# EAGLE library part ESP-12-E (library IC-ESP)
ESP8266 Wifi Module ESP-12-E
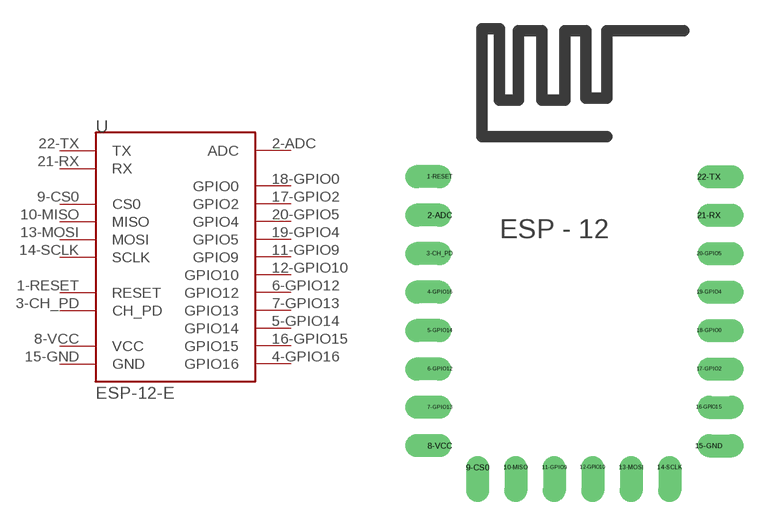
[diagram p13: symbol with the pads of ESP-12-E; footprint ESP-12-E]

Designator prefix -

## ESP-12-E (DIMENSIONS: 24.0 x 16.0 mm; PINS: 22; PITCH: 0.078" / 2 mm)  [ESP-12-E]
1-RESET  RESET
2-ADC  ADC
3-CH_PD  CH_PD
4-GPIO16  GPIO16
5-GPIO14  GPIO14
6-GPIO12  GPIO12
7-GPIO13  GPIO13
8-VCC  VCC
9-CS0  CS0
10-MISO  MISO
11-GPIO9  GPIO9
12-GPIO10  GPIO10
13-MOSI  MOSI
14-SCLK  SCLK
15-GND  GND
16-GPIO15  GPIO15
17-GPIO2  GPIO2
18-GPIO0  GPIO0
19-GPIO4  GPIO5
20-GPIO5  GPIO4
21-RX  RX
22-TX  TX

## Footprint ESP-12-E (pad centres in mm)
ESP8266 Module ESP-12-E
drill 0.7 offset: 1-RESET -7.1,5.8; 2-ADC -7.1,3.8; 3-CH_PD -7.1,1.8; 4-GPIO16 -7.1,-0.2; 5-GPIO14 -7.1,-2.2; 6-GPIO12 -7.1,-4.2; 7-GPIO13 -7.1,-6.2; 8-VCC -7.1,-8.2; 9-CS0 -5.14,-9.33; 10-MISO -3.14,-9.33; 11-GPIO9 -1.14,-9.33; 12-GPIO10 0.86,-9.33; 13-MOSI 2.86,-9.33; 14-SCLK 4.86,-9.33; 15-GND 6.9,-8.2; 16-GPIO15 6.9,-6.2; 17-GPIO2 6.9,-4.2; 18-GPIO0 6.9,-2.2; 19-GPIO4 6.9,-0.2; 20-GPIO5 6.9,1.8; 21-RX 6.9,3.8; 22-TX 6.9,5.8